# Altium footprint library 107.PcbLib: 1 footprints
Each footprint in its own frame and in the unit in brackets; x right, y up, seen from the top. Pads: shape width x height; smd on the part's side, far side on the other; paste and mask are expansions set on the pad; w line width, h text height; cw(c..) or ccw(c..) is an arc to the next point about the centre after c.
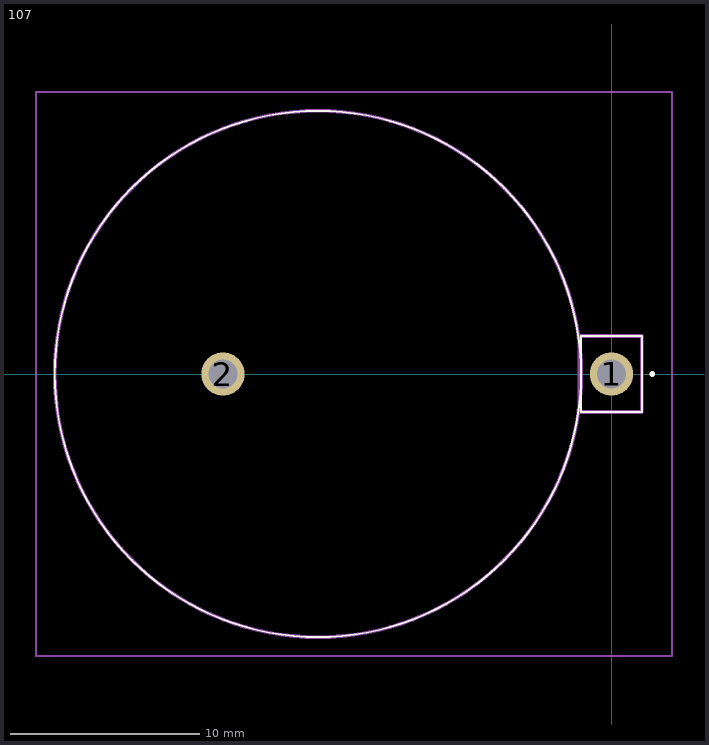
[diagram p0: the footprint, top view; thin cyan lines are the x and y axes]

## 107 [mm]
pads (2):
  round 2.28 hole 1.52: 1(0,0) 2(-20.49,0)
Top Overlay:
  lines w0.1: -29.36,0 -29.36,0 ; -29.36,0 ccw(c-15.48,0) -1.6,0 ; -29.36,0 cw(c-15.48,0) -1.6,0 ; -1.6,0 -1.6,0 ; -1.6,-2 1.6,-2 1.6,2 -1.6,2 -1.6,-2
  lines w0.2: 2.1,0 2.1,0 ; 2.1,0 ccw(c2.15,0) 2.2,0 ; 2.1,0 cw(c2.15,0) 2.2,0 ; 2.1,0 2.1,0 ; 2.1,0 ccw(c2.15,0) 2.2,0 ; 2.2,0 2.2,0
Mechanical 15:
  lines w0.2: -29.36,0 -29.36,0 ; -29.36,0 ccw(c-15.48,0) -1.6,0 ; -29.36,0 cw(c-15.48,0) -1.6,0 ; -1.6,0 -1.6,0 ; -1.7,-2 1.6,-2 1.6,2 -1.7,2 -1.7,-2
Mechanical 20:
  lines w0.1: -30.36,-14.88 3.2,-14.88 3.2,14.88 -30.36,14.88 -30.36,-14.88